# Altium schematic symbol library ST3222ECPR.SchLib: 1 symbol
Pins are listed as number, name and electrical type; pins without a type are passive.

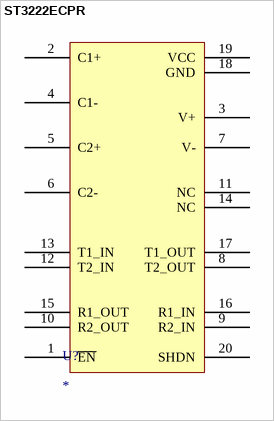
[diagram p0: symbol ST3222ECPR]

## ST3222ECPR
designator U?
pins: 1 ~{EN}, 2 C1+, 3 V+, 4 C1-, 5 C2+, 6 C2-, 7 V-, 8 T2_OUT, 9 R2_IN, 10 R2_OUT, 11 NC, 12 T2_IN, 13 T1_IN, 14 NC, 15 R1_OUT, 16 R1_IN, 17 T1_OUT, 18 GND, 19 VCC, 20 SHDN